# Altium schematic symbol library 44237.Schlib: 1 symbol
Pins are listed as number, name and electrical type; pins without a type are passive.

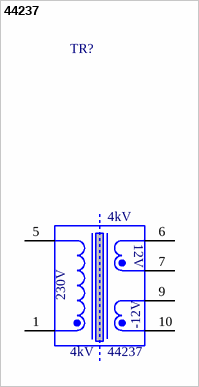
[diagram p0: symbol 44237]

## 44237
designator TR?
Transformer 230V/2x12V, 2x200mA; ComponentLink1Description: Datasheet; ComponentLink1URL: https://www.tme.eu/Document/cb1d7fdbe3570188ff28030ca3a4f1cf/Catalogue%20Myrra%202018%20compress%C3%A9.pdf
footprint 44237
pins: 1 (power), 5 (power), 6 (power), 7 (power), 9 (power), 10 (power)
text: 4kV; 12V; 230V; -12V